# Altium schematic symbol library LM4881MM.SchLib: 1 symbol
Pins are listed as number, name and electrical type; pins without a type are passive.

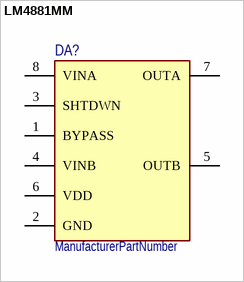
[diagram p0: symbol LM4881MM]

## LM4881MM
designator DA?  (value not drawn)
ManufacturerPartNumber: ManufacturerPartNumber
pins: 1 BYPASS, 2 GND, 3 SHTDWN, 4 VINB, 5 OUTB, 6 VDD, 7 OUTA, 8 VINA